# Altium schematic symbol library 2019-08-31_06-05-10.SchLib: 2 symbols
Pins are listed as number, name and electrical type; pins without a type are passive.

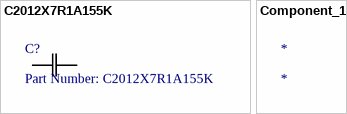
[diagram p0: symbols C2012X7R1A155K to Component_1]

## C2012X7R1A155K
designator C?, comment Part Number: C2012X7R1A155K
No Description Available; Vendor: TDK; Built_By: EMA_UL_Team; Type: DEV; Manufacturer_Part_Number: C2012X7R1A155K; Copyright: Copyright (C) 2018 Accelerated Designs. All rights reserved; RefDes: RefDes; Value: Value
footprint CAP_2012
pins: 1, 2

## Component_1
designator *